# EAGLE library part MCP43XX (library Bat-Components)
7/8-Bit Quad SPI Digital POT with Nonvolatile Memory
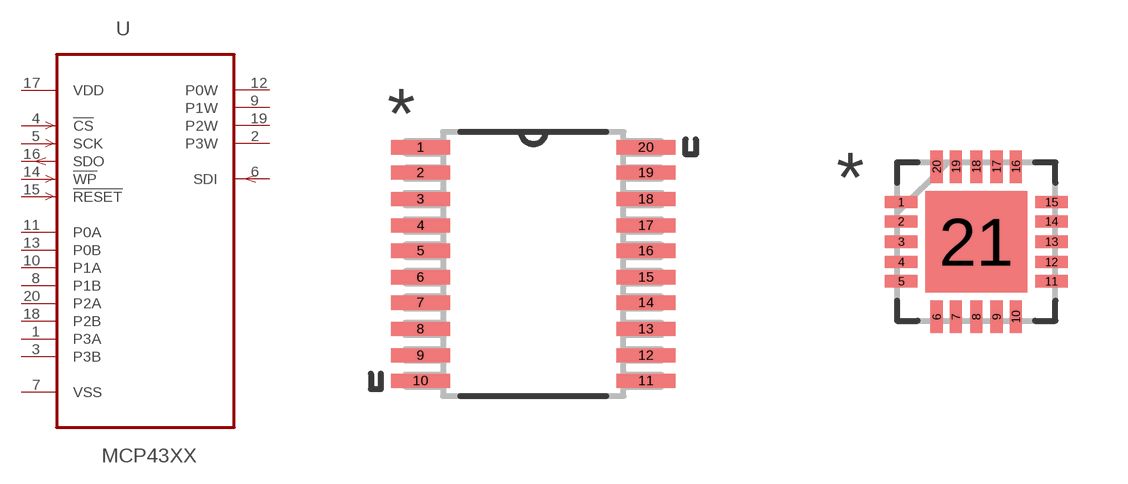
[diagram p17: symbol with the pads of SOP65P640X120-20N; footprints SOP65P640X120-20N, QFN50P400X400X100-21N]

Designator prefix U

## MCP43XX41-103E/ST (MPN: MCP4441-103E/ST; OC_FARNELL: 1863936; OC_NEWARK: 91R2849; PACKAGE: TSSOP-20; SUPPLIER: MICROCHIP), MCP43XX41-104E/ST (MPN: MCP4441-104E/ST; OC_FARNELL: 1863938; OC_NEWARK: 91R2851; PACKAGE: TSSOP-20; SUPPLIER: MICROCHIP), MCP43XX41-502E/ST (MPN: MCP4441-502E/ST; OC_FARNELL: 1863942; OC_NEWARK: 91R2853; PACKAGE: TSSOP-20; SUPPLIER: MICROCHIP), MCP43XX41-503E/ST (MPN: MCP4441-503E/ST; OC_FARNELL: 1863944; OC_NEWARK: 91R2855; PACKAGE: TSSOP-20; SUPPLIER: MICROCHIP), MCP43XX61-103E/ST (MPN: MCP4461-103E/ST; OC_FARNELL: 1863949; OC_NEWARK: 91R2872; PACKAGE: TSSOP-20; SUPPLIER: MICROCHIP), MCP43XX61-104E/ST (MPN: MCP4461-104E/ST; OC_FARNELL: 1863951; OC_NEWARK: 91R2874; PACKAGE: TSSOP-20; SUPPLIER: MICROCHIP)  [SOP65P640X120-20N]
1  P3A
2  P3W
3  P3B
4  !CS  in
5  SCK  in
6  SDI  in
7  VSS  pwr
8  P1B
9  P1W
10  P1A
11  P0A
12  P0W
13  P0B
14  !WP  in
15  !RESET  in
16  SDO  in
17  VDD  pwr
18  P2B
19  P2W
20  P2A

## MCP43XX41-103E/ML (MPN: MCP4441-103E/ML; OC_FARNELL: 1855436; OC_NEWARK: 91R2848; PACKAGE: QFN-20; SUPPLIER: MICROCHIP), MCP43XX41-104E/ML (MPN: MCP4441-104E/ML; OC_FARNELL: 1863937; OC_NEWARK: 91R2850; PACKAGE: QFN-20; SUPPLIER: MICROCHIP), MCP43XX41-502E/ML (MPN: MCP4441-502E/ML; OC_FARNELL: 1863941; OC_NEWARK: 91R2852; PACKAGE: QFN-20; SUPPLIER: MICROCHIP), MCP43XX41-503E/ML (MPN: MCP4441-503E/ML; OC_FARNELL: 1863943; OC_NEWARK: 91R2854; PACKAGE: QFN-20; SUPPLIER: MICROCHIP), MCP43XX61-103E/ML (MPN: MCP4461-103E/ML; OC_FARNELL: 1863948; OC_NEWARK: 91R2871; PACKAGE: QFN-20; SUPPLIER: MICROCHIP), MCP43XX61-104E/ML (MPN: MCP4461-104E/ML; OC_FARNELL: 1863950; OC_NEWARK: 91R2873; PACKAGE: QFN-20; SUPPLIER: MICROCHIP), MCP43XX61-502E/ML (MPN: MCP4461-502E/ML; OC_FARNELL: 1863953; OC_NEWARK: 91R2875; PACKAGE: QFN-20; SUPPLIER: MICROCHIP)  [QFN50P400X400X100-21N]
1  P3B
2  !CS  in
3  SCK  in
4  SDI  in
5  VSS  pwr
6  P1B
7  P1W
8  P1A
9  P0A
10  P0W
11  P0B
12  !WP  in
13  !RESET  in
14  SDO  in
15  VDD  pwr
16  P2B
17  P2W
18  P2A
19  P3A
20  P3W
21  VSS  pwr

## Footprint SOP65P640X120-20N (pad centres in mm)
smd 1.473 x 0.356: 1 -2.819,2.921; 2 -2.819,2.286; 3 -2.819,1.626; 4 -2.819,0.965; 5 -2.819,0.33; 6 -2.819,-0.33; 7 -2.819,-0.965; 8 -2.819,-1.626; 9 -2.819,-2.286; 10 -2.819,-2.921; 11 2.819,-2.921; 12 2.819,-2.286; 13 2.819,-1.626; 14 2.819,-0.965; 15 2.819,-0.33; 16 2.819,0.33; 17 2.819,0.965; 18 2.819,1.626; 19 2.819,2.286; 20 2.819,2.921

## Footprint QFN50P400X400X100-21N (pad centres in mm)
smd 0.813 x 0.305: 1 -1.88,0.991; 2 -1.88,0.508; 3 -1.88,0; 4 -1.88,-0.508; 5 -1.88,-0.991; 11 1.88,-0.991; 12 1.88,-0.508; 13 1.88,0; 14 1.88,0.508; 15 1.88,0.991
smd 0.305 x 0.813: 6 -0.991,-1.88; 7 -0.508,-1.88; 8 0,-1.88; 9 0.508,-1.88; 10 0.991,-1.88; 16 0.991,1.88; 17 0.508,1.88; 18 0,1.88; 19 -0.508,1.88; 20 -0.991,1.88
smd 2.54 x 2.54: 21 0,0